# Altium footprint library Face_PWR1V0.PcbLib: 20 footprints (part 2 of 2)
Each footprint in its own frame and in the unit in brackets; x right, y up, seen from the top. Pads: shape width x height; smd on the part's side, far side on the other; paste and mask are expansions set on the pad; w line width, h text height; cw(c..) or ccw(c..) is an arc to the next point about the centre after c.
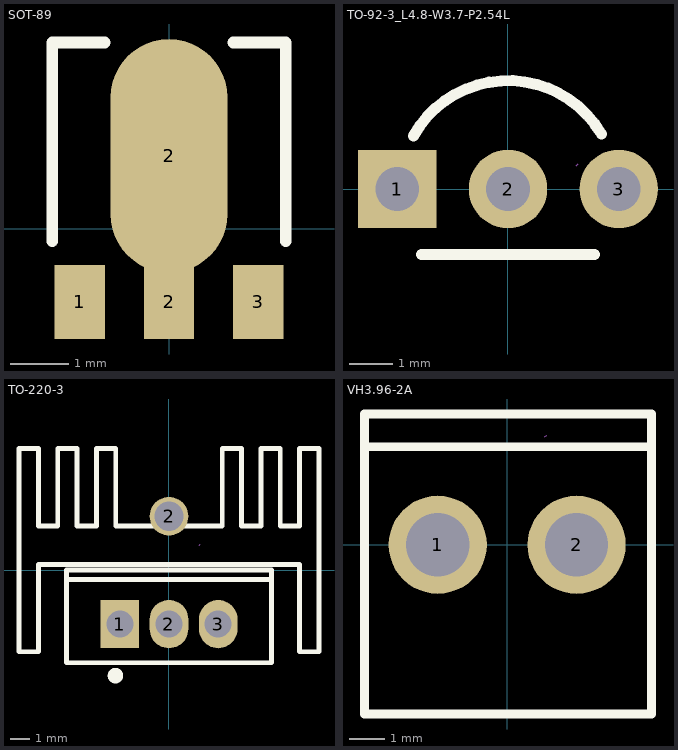
[diagram p1: the footprints below, top view; thin cyan lines are the x and y axes]

## SOT-89 [mm]
height 6.3
pads (4):
  rect 0.864x1.27 smd: 1(-1.524,-1.25) 2(0,-1.25) 3(1.524,-1.25)
  oval 2x4 smd: 2(0,1.25)
Top Overlay:
  lines w0.2: -2,-0.21 -2,3.19 -1.1,3.19 ; 1.1,3.19 2,3.19 2,-0.21
3D body "SW3dPS-SOT89.STEP": height 1.79, standoff 0.18, extent -2.285,-1.528 2.315,2.722

## TO-92-3_L4.8-W3.7-P2.54L [mm]
pads (3):
  rect 1.8x1.8 hole 1: 1(-2.54,0)
  round 1.8 hole 1: 2(0,0) 3(2.54,0)
Top Overlay:
  lines w0.254: -2.171,1.211 cw(c0,0) 2.144,1.26 ; -1.98,-1.5 1.98,-1.5
Mechanical 15:
  lines w0.003: 1.562,0.531 1.613,0.582
3D body "User Library-2N5551 Transistors NPN TO-92 3L (2,54mm).STEP": height 17.82, standoff -1.7, extent -2.43,-1.5 2.33,2.13

## TO-220-3 [mm]
pads (4):
  rect 2.002x2.499 hole 1.4: 1(-2.54,-2.785)
  oval 2x2.5 hole 1.4: 2(0,-2.785) 3(2.54,-2.785)
  round 2 hole 1.5: 2(0,2.785)
Top Overlay:
  lines w0.254: -5.3,-0.485 5.3,-0.485 ; -7.75,-4.215 -6.75,-4.215 -6.75,0.285 6.75,0.285 6.75,-4.215 7.75,-4.215 7.75,6.285 6.75,6.285 6.75,2.285 5.75,2.285 5.75,6.285 4.75,6.285 4.75,2.285 3.75,2.285 3.75,6.285 2.75,6.285 2.75,2.285 -2.75,2.285 -2.75,6.285 -3.75,6.285 -3.75,2.285 -4.75,2.285 -4.75,6.285 -5.75,6.285 -5.75,2.285 -6.75,2.285 -6.75,6.285 -7.75,6.285 -7.75,-4.215 ; -5.301,-4.784 -5.301,0.009 -5.301,0.014 5.301,0.014 5.301,-4.784 -5.301,-4.784
  lines w0.4: -2.769,-5.249 ccw(c-2.767,-5.449) -2.766,-5.249
Mechanical 15:
  lines w0.003: 1.562,1.298 1.613,1.349 ; 1.689,-2.652 1.74,-2.601
3D body "User Library-Heatsink-57AS.STEP": height 25, standoff 0, extent -7.7,-1.88 7.6,10.38
3D body "l7805cv.stp": height 20.5, standoff -8.4, extent -5.1,-4.6 5.1,-0.1

## VH3.96-2A [mm]
pads (2):
  round 2.8 hole 1.8: 1(-1.98,0) 2(1.98,0)
Top Overlay:
  lines w0.254: -4.071,2.794 4.116,2.794 ; -4.071,-4.826 4.116,-4.826 4.116,3.729 -4.071,3.729 -4.071,-4.826
Mechanical 15:
  lines w0.003: 1.077,3.075 1.128,3.126
3D body "User Library-B2P-VH-R.STEP": height 10.9, standoff -3.7, extent -3.91,-4.8 3.95,3.7